# Altium footprint library TG12864B-03.PcbLib: 1 footprints
Each footprint in its own frame and in the unit in brackets; x right, y up, seen from the top. Pads: shape width x height; smd on the part's side, far side on the other; paste and mask are expansions set on the pad; w line width, h text height; cw(c..) or ccw(c..) is an arc to the next point about the centre after c.
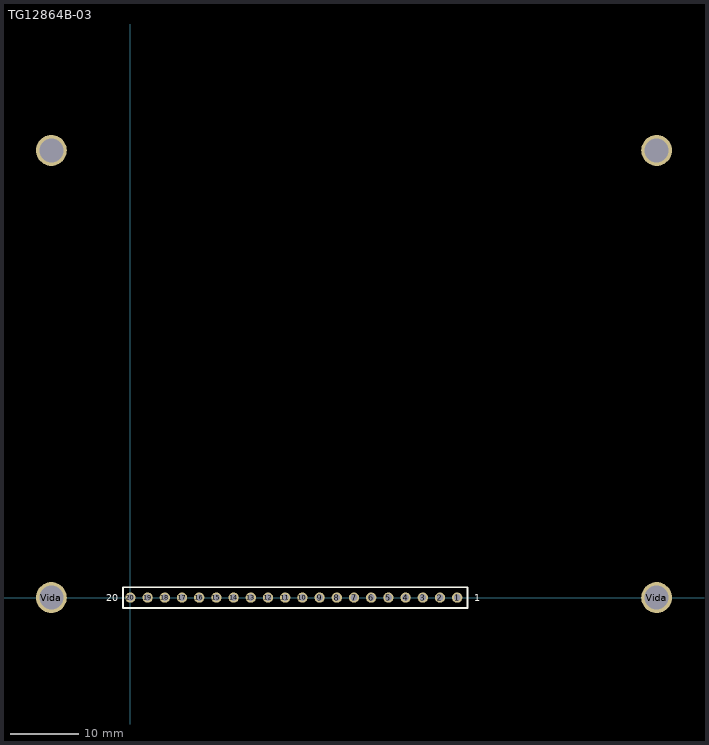
[diagram p0: the footprint, top view; thin cyan lines are the x and y axes]

## TG12864B-03 [mm]
pads (24):
  round 1.5 hole 1: 1(47.5,0) 2(45,0) 3(42.5,0) 4(40,0) 5(37.5,0) 6(35,0) 7(32.5,0) 8(30,0) 9(27.5,0) 10(25,0) 11(22.5,0) 12(20,0) 13(17.5,0) 14(15,0) 15(12.5,0) 16(10,0) 17(7.5,0) 18(5,0) 19(2.5,0) 20(0,0)
  round 4.5 hole 3.5: Vida(-11.5,0) Vida(76.5,0) ""(-11.5,65) ""(76.5,65)
Top Overlay:
  lines w0.254: -1.08,-1.5 -1.08,1.5 49,1.5 49,-1.5 -1.08,-1.5
  text "20" at -3.5,-0.5 h1
  text "1" at 50,-0.5 h1